# Altium footprint library 524265E.PcbLib: 1 footprints
Each footprint in its own frame and in the unit in brackets; x right, y up, seen from the top. Pads: shape width x height; smd on the part's side, far side on the other; paste and mask are expansions set on the pad; w line width, h text height; cw(c..) or ccw(c..) is an arc to the next point about the centre after c.
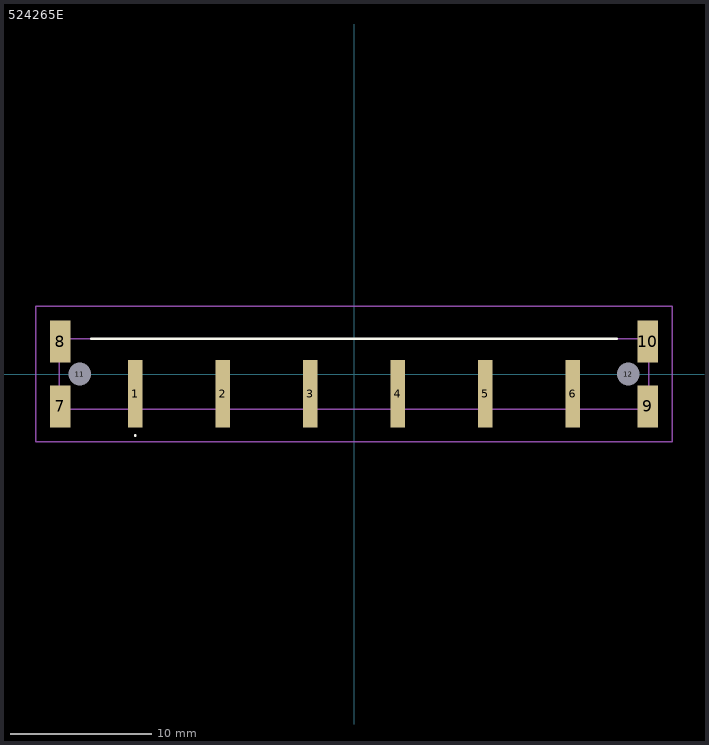
[diagram p0: the footprint, top view; thin cyan lines are the x and y axes]

## 524265E [mm]
pads (12):
  rect 1.02x4.8 smd: 1(-15.5,-1.4) 2(-9.3,-1.4) 3(-3.1,-1.4) 4(3.1,-1.4) 5(9.3,-1.4) 6(15.5,-1.4)
  rect 1.45x3 smd: 7(-20.825,-2.3) 8(-20.825,2.3) 9(20.825,-2.3) 10(20.825,2.3)
  round 0.8 hole 1.6 unplated: 11(-19.45,0) 12(19.45,0)
Top Overlay:
  lines w0.1: -15.5,-4.4 -15.5,-4.4 ; -15.5,-4.4 ccw(c-15.5,-4.35) -15.5,-4.3 ; -15.5,-4.4 cw(c-15.5,-4.35) -15.5,-4.3 ; -15.5,-4.3 -15.5,-4.3
  lines w0.2: -18.6,2.5 18.6,2.5
Mechanical 15:
  lines w0.1: -20.9,-2.5 20.9,-2.5 20.9,2.5 -20.9,2.5 -20.9,-2.5
Mechanical 20:
  lines w0.1: -22.55,-4.8 22.55,-4.8 22.55,4.8 -22.55,4.8 -22.55,-4.8